# Altium schematic symbol library PIC18F14Q40-I_REB.Schlib: 1 symbol
Pins are listed as number, name and electrical type; pins without a type are passive.

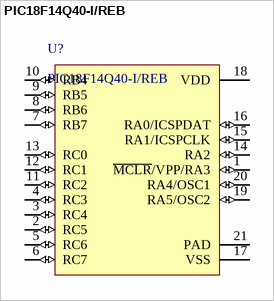
[diagram p0: symbol PIC18F14Q40-I/REB]

## PIC18F14Q40-I/REB
designator U?
PIC series Microcontroller IC 8-Bit 64MHz 16KB (16K x 8) FLASH 20-VQFN (3x3)
pins: 1 ~{MCLR}/VPP/RA3 (io), 2 RC5 (io), 3 RC4 (io), 4 RC3 (io), 5 RC6 (io), 6 RC7 (io), 7 RB7 (io), 8 RB6 (io), 9 RB5 (io), 10 RB4 (io), 11 RC2 (io), 12 RC1 (io), 13 RC0 (io), 14 RA2 (io), 15 RA1/ICSPCLK (io), 16 RA0/ICSPDAT (io), 17 VSS (power), 18 VDD (power), 19 RA5/OSC2 (io), 20 RA4/OSC1 (io), 21 PAD